# EAGLE library part BGM12X-VISUAL (library jetney-silabs-modules)
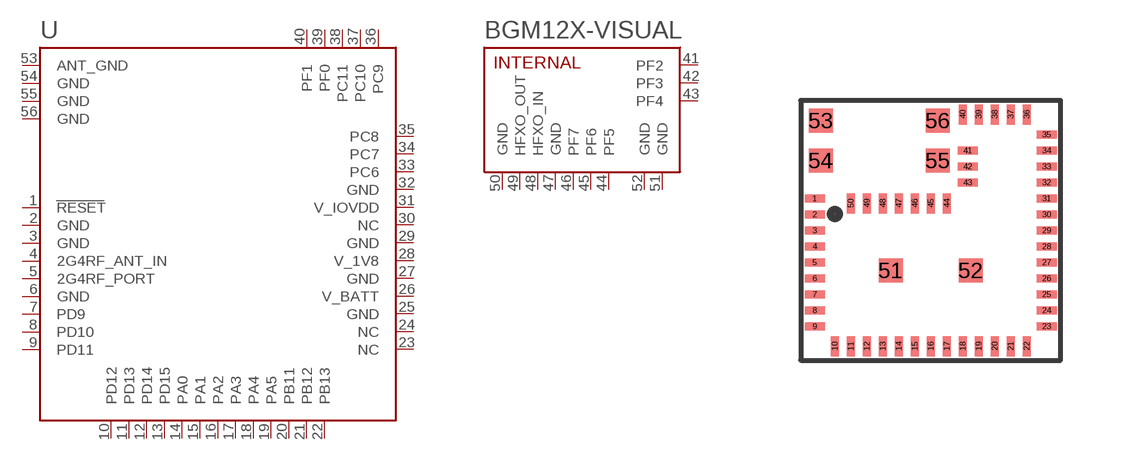
[diagram p31: symbol with the pads of BGM12X-A; footprint BGM12X-A]

Designator prefix U

## BGM12X-VISUAL  [BGM12X-A]
1  RESET  in
2  GND  pwr
3  GND  pwr
4  2G4RF_ANT_IN  in
5  2G4RF_PORT  out
6  GND  pwr
7  PD9
8  PD10
9  PD11
10  PD12
11  PD13
12  PD14
13  PD15
14  PA0
15  PA1
16  PA2
17  PA3
18  PA4
19  PA5
20  PB11
21  PB12
22  PB13
23  NC  nc
24  NC  nc
25  GND  pwr
26  V_BATT  pwr
27  GND  pwr
28  V_1V8  pwr
29  GND  pwr
30  NC  nc
31  V_IOVDD  pwr
32  GND  pwr
33  PC6
34  PC7
35  PC8
36  PC9
37  PC10
38  PC11
39  PF0
40  PF1
41  PF2
42  PF3
43  PF4
44  PF5
45  PF6
46  PF7
47  GND  pwr
48  HFXO_IN  in
49  HFXO_OUT  out
50  GND  pwr
51  GND  pwr
52  GND  pwr
53  ANT_GND  pwr
54  GND  pwr
55  GND  pwr
56  GND  pwr

## Footprint BGM12X-A (pad centres in mm)
BGM12xA Bluetooth Smart SiP Module package PCB LAYOUT NOTE: The BGM12xA variant includes an on-module ceramic chip antenna and the required keepout/restrict area. The antenna edge of the module should be flush up against the edge of the PCB. See datasheet for variant layout details. IT IS EXTREMELY IMPORTANT THAT YOU FOLLOW THE LAYOUT GUIDELINES FOR THIS MODULE IN ORDER TO ENSURE MAXIMUM RANGE. THIS MEANS THAT YOU NEED A SOLID GROUND PLANE AROUND THE MODULE EXCEPT IN THE COPPER KEEPOUT AREAS, AS SHOWN IN THE DATASHEET. OVERALL PCB SIZE ALSO IMPACTS THE ANTENNA EFFICIENCY. This package is built to very specific tolerances, particularly concerning solder paste aperture size. Recommended solder stencil is a 4mil (0.100mm) laser-cut stainless steel electro-polished stencil with trapezoidal walls and rounded corners. For details, refer to the recommended landing pattern and antenna layout guidelines in the datasheet. Source: http://www.silabs.com/products/wireless/bluetooth/bluetooth-smart-modules/Pages/bgm121-bluetooth-sip-module.aspx EAGLE package created by Jeff Rowberg for Jetney Development at https://www.jetney.com Latest version maintained at https://github.com/jetney/jetney-eagle-libraries/blob/master/jetney-silabs-modules.lbr Last updated 2018-03-31
smd 0.5 x 0.2: 1 -2.9,0.8; 2 -2.9,0.4; 3 -2.9,0; 4 -2.9,-0.4; 5 -2.9,-0.8; 6 -2.9,-1.2; 7 -2.9,-1.6; 8 -2.9,-2; 9 -2.9,-2.4; 23 2.9,-2.4; 24 2.9,-2; 25 2.9,-1.6; 26 2.9,-1.2; 27 2.9,-0.8; 28 2.9,-0.4; 29 2.9,0; 30 2.9,0.4; 31 2.9,0.8; 32 2.9,1.2; 33 2.9,1.6; 34 2.9,2; 35 2.9,2.4; 41 0.925,2; 42 0.925,1.6; 43 0.925,1.2
smd 0.2 x 0.5: 10 -2.4,-2.9; 11 -2,-2.9; 12 -1.6,-2.9; 13 -1.2,-2.9; 14 -0.8,-2.9; 15 -0.4,-2.9; 16 0,-2.9; 17 0.4,-2.9; 18 0.8,-2.9; 19 1.2,-2.9; 20 1.6,-2.9; 21 2,-2.9; 22 2.4,-2.9; 36 2.4,2.9; 37 2,2.9; 38 1.6,2.9; 39 1.2,2.9; 40 0.8,2.9; 44 0.4,0.675; 45 0,0.675; 46 -0.4,0.675; 47 -0.8,0.675; 48 -1.2,0.675; 49 -1.6,0.675; 50 -2,0.675
smd 0.6 x 0.6: 51 -1,-1; 52 1,-1; 53 -2.75,2.75; 54 -2.75,1.75; 55 0.175,1.75; 56 0.175,2.75